# EAGLE library part 74X139 (library TinyNES_Library)
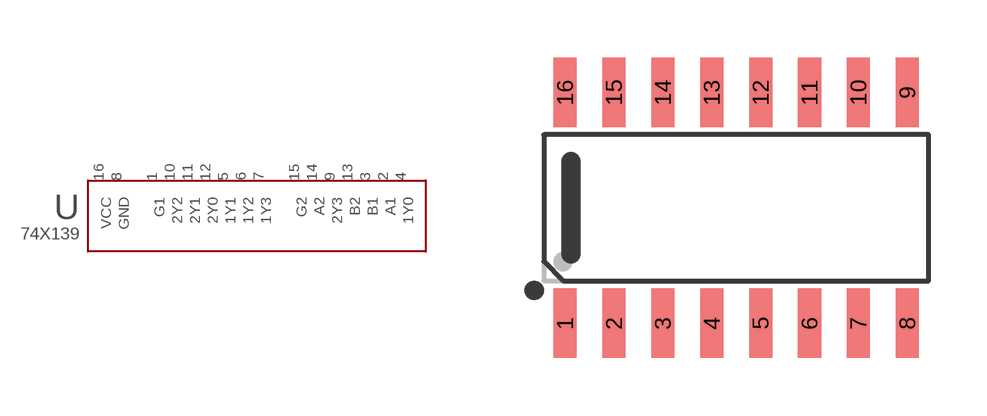
[diagram p2: symbol with the pads of SOIC-16; footprint SOIC-16]

Designator prefix U

## 74X139  [SOIC-16]
1  G1
2  A1
3  B1
4  1Y0
5  1Y1
6  1Y2
7  1Y3
8  GND
9  2Y3
10  2Y2
11  2Y1
12  2Y0
13  B2
14  A2
15  G2
16  VCC

## Footprint SOIC-16 (pad centres in mm)
smd 0.6 x 1.8: 1 -4.445,-3; 2 -3.175,-3; 3 -1.905,-3; 4 -0.635,-3; 5 0.635,-3; 6 1.905,-3; 7 3.175,-3; 8 4.445,-3; 9 4.445,3; 10 3.175,3; 11 1.905,3; 12 0.635,3; 13 -0.635,3; 14 -1.905,3; 15 -3.175,3; 16 -4.445,3